# EAGLE library part AON7262E (library AON7262E)
N-Channel 60 V 21A (Ta), 34A (Tc) 5W (Ta), 43W (Tc) Surface Mount 8-DFN-EP (3x3) Source: Datasheet <https://www.aosmd.com/sites/default/files/res/datasheets/AON7262E.pdf>
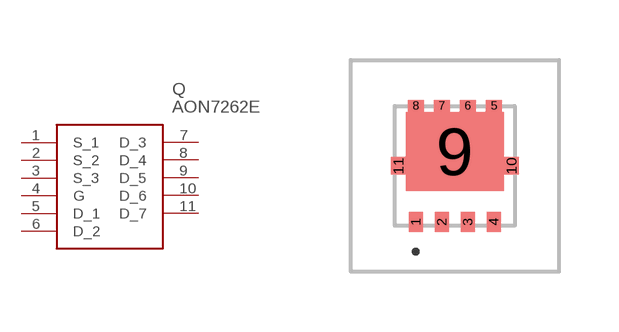
[diagram p0: symbol with the pads of AON7262E; footprint AON7262E]

Designator prefix Q

## AON7262E (Description: N-Channel 60 V 21A (Ta), 34A (Tc) 5W (Ta), 43W (Tc) Surface Mount 8-DFN-EP (3x3); Height: 0.9mm; Manufacturer_Name: Alpha & Omega Semiconductors; Manufacturer_Part_Number: AON7262E)  [AON7262E]
1  S_1
2  S_2
3  S_3
4  G
5  D_1
6  D_2
7  D_3
8  D_4
9  D_5
10  D_6
11  D_7

## Footprint AON7262E (pad centres in mm)
DFN 3x3 EP
smd 0.35 x 0.5: 1 -0.975,-1.4; 2 -0.325,-1.4; 3 0.325,-1.4; 4 0.975,-1.4
smd 0.4 x 0.3: 5 0.975,1.5; 6 0.325,1.5; 7 -0.325,1.5; 8 -0.975,1.5
smd 2.45 x 1.98: 9 0,0.36
smd 0.38 x 0.43: 10 1.415,0; 11 -1.415,0